# Altium integrated library NSC Audio Power Amplifier.IntLib: 35 symbols
Pins are listed as number, name and electrical type; pins without a type are passive.

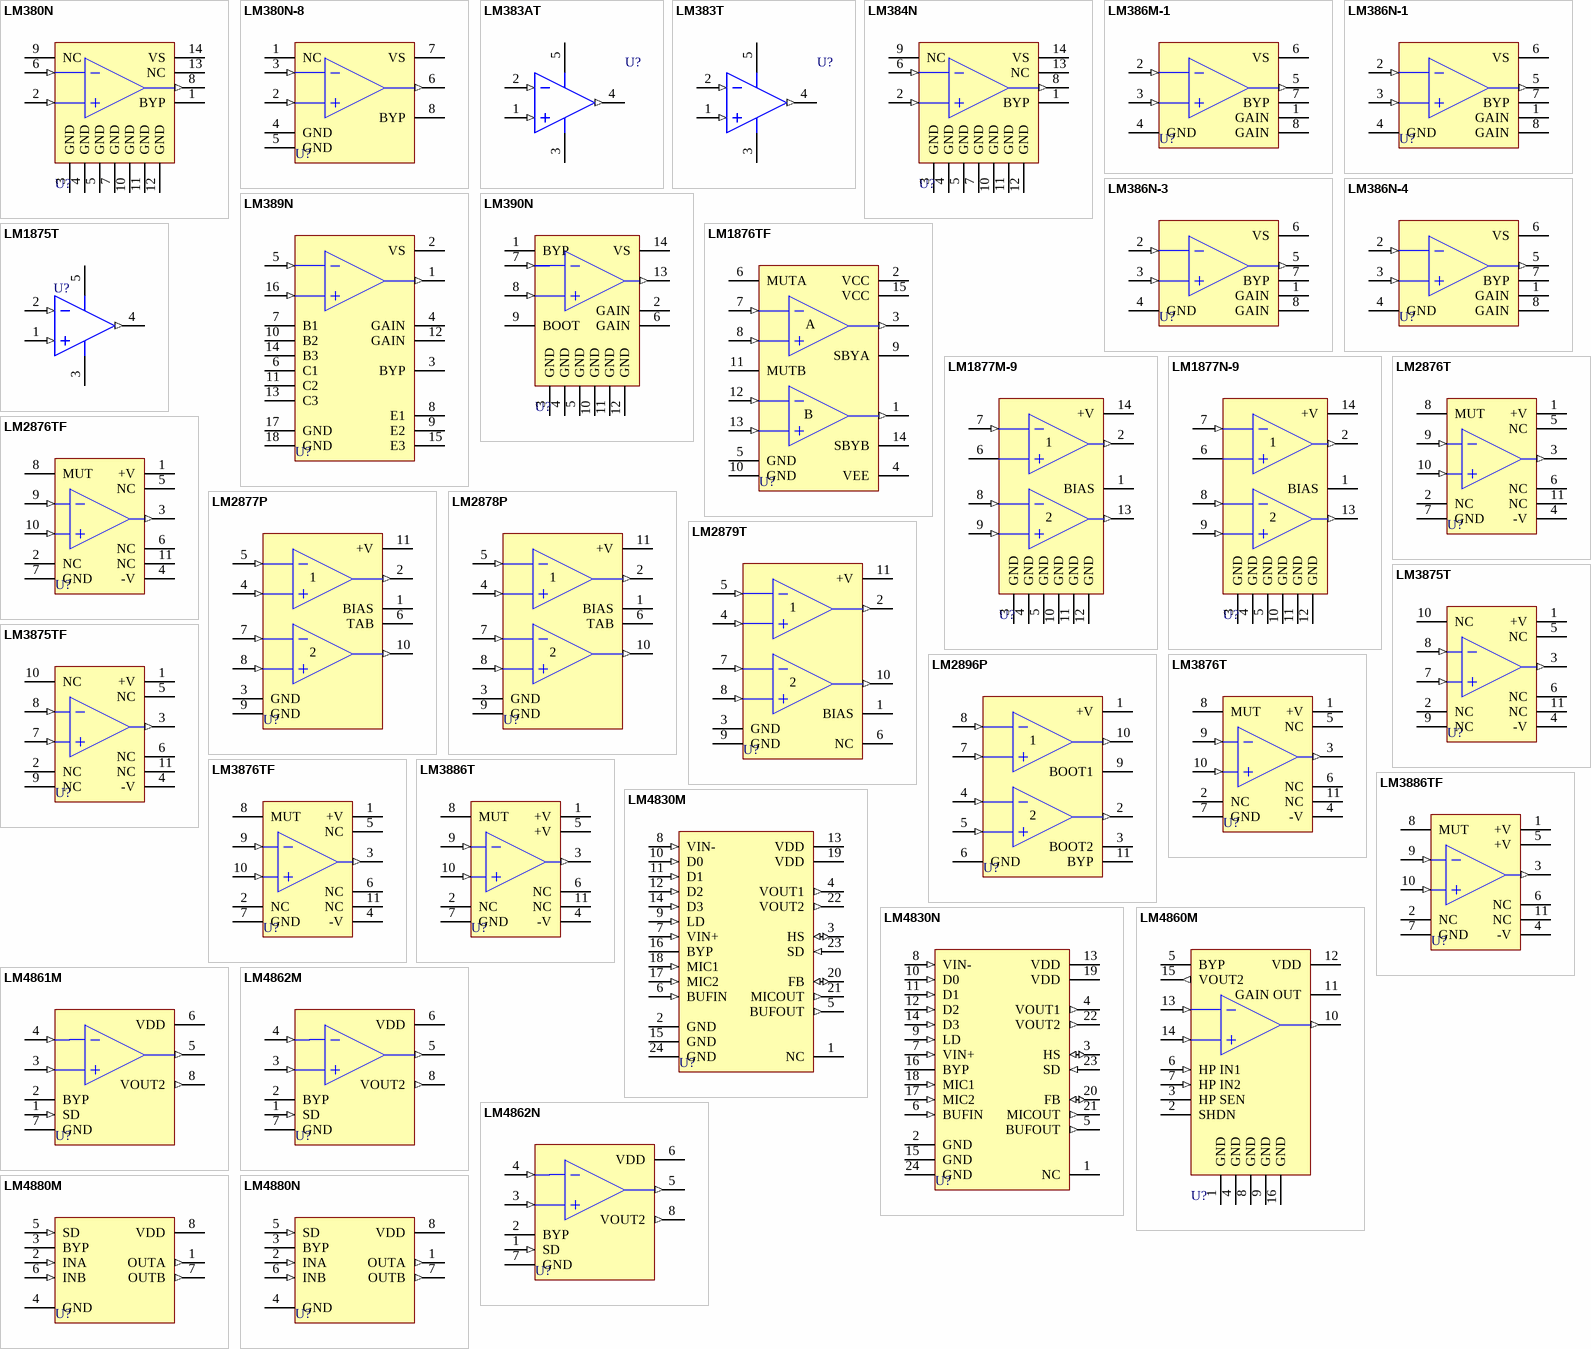
[diagram p0: symbols LM380N to LM4880N]

## LM380N
designator U?
Audio Power Amplifier; Note: Pins 3-5 and 10-12 are Heatsink pins.; Published: 15-Apr-2002; LatestRevisionDate: 06-Jun-2005; LatestRevisionNote: Stylized 3D Model Added.; DatasheetVersion: Dec-1994; PackageVersion: 2000; PackageReference: N14A; Publisher: Altium Limited; PackageDescription: DIP; 14 Leads; Row Spacing 7.62 mm; Pitch 2.54 mm; ComponentLink1Description: Manufacturer Link; ComponentLink1URL: http://www.national.com/; ComponentLink2Description: Datasheet; ComponentLink2URL: http://www.national.com/ds.cgi/LM/LM380.pdf; ComponentLink3Description: URL Link1; ComponentLink3URL: http://www.national.com/pf/LM/LM380.html
footprint N14A (DIP; 14 Leads; Row Spacing 7.62 mm; Pitch 2.54 mm)
3D model N14A (DIP; 14 Leads; Row Spacing 7.62 mm; Pitch 2.54 mm)
pins: 1 BYP, 2 IN+ (in), 3 GND (power), 4 GND (power), 5 GND (power), 6 IN- (in), 7 GND (power), 8 OUT (out), 9 NC, 10 GND (power), 11 GND (power), 12 GND (power), 13 NC, 14 VS (power)

## LM380N-8
designator U?
Audio Power Amplifier; Published: 15-Apr-2002; LatestRevisionDate: 06-Jun-2005; LatestRevisionNote: Stylized 3D Model Added.; DatasheetVersion: Dec-1994; PackageVersion: Sep-1997; PackageReference: N08E; Publisher: Altium Limited; PackageDescription: DIP; 8 Leads; Row Spacing 7.62 mm; Pitch 2.54 mm; ComponentLink1Description: Manufacturer Link; ComponentLink1URL: http://www.national.com/; ComponentLink2Description: Datasheet; ComponentLink2URL: http://www.national.com/ds.cgi/LM/LM380.pdf; ComponentLink3Description: URL Link1; ComponentLink3URL: http://www.national.com/pf/LM/LM380.html
footprint N08E (DIP; 8 Leads; Row Spacing 7.62 mm; Pitch 2.54 mm)
3D model N08E (DIP; 8 Leads; Row Spacing 7.62 mm; Pitch 2.54 mm)
pins: 1 NC, 2 IN+ (in), 3 IN- (in), 4 GND (power), 5 GND (power), 6 OUT (out), 7 VS (power), 8 BYP

## LM383AT
designator U?
7W Audio Power Amplifier; ComponentAvailability: Obsolete; Published: 15-Apr-2002; DatasheetVersion: Feb-1995; PackageVersion: 1995; PackageReference: T05B; Publisher: Altium Limited; PackageDescription: TO, Thru-Hole, Vertical, Heatsink Mounted; 5 Bent Staggered Leads; Pitch 1.7mm; ComponentLink1Description: Manufacturer Link; ComponentLink1URL: http://www.national.com/; ComponentLink2Description: Datasheet; ComponentLink2URL: http://www.national.com/ds.cgi/LM/LM383.pdf; ComponentLink3Description: Discontinuation Notice; ComponentLink3URL: http://www.national.com/obs/obsolescence.txt; ComponentLink4Description: URL Link1; ComponentLink4URL: http://www.national.com/pf/LM/LM383.html
footprint T05B (TO, Thru-Hole, Vertical, Heatsink Mounted; 5 Bent Staggered Leads; Pitch 1.7mm)
pins: 1 IN+ (in), 2 IN- (in), 3 GND (power), 4 OUT (out), 5 VCC (power)

## LM383T
designator U?
7W Audio Power Amplifier; ComponentAvailability: Obsolete; Published: 15-Apr-2002; DatasheetVersion: Feb-1995; PackageVersion: 1995; PackageReference: T05B; Publisher: Altium Limited; PackageDescription: TO, Thru-Hole, Vertical, Heatsink Mounted; 5 Bent Staggered Leads; Pitch 1.7mm; ComponentLink1Description: Manufacturer Link; ComponentLink1URL: http://www.national.com/; ComponentLink2Description: Datasheet; ComponentLink2URL: http://www.national.com/ds.cgi/LM/LM383.pdf; ComponentLink3Description: Discontinuation Notice; ComponentLink3URL: http://www.national.com/obs/obsolescence.txt; ComponentLink4Description: URL Link1; ComponentLink4URL: http://www.national.com/pf/LM/LM383.html
footprint T05B (TO, Thru-Hole, Vertical, Heatsink Mounted; 5 Bent Staggered Leads; Pitch 1.7mm)
pins: 1 IN+ (in), 2 IN- (in), 3 GND (power), 4 OUT (out), 5 VCC (power)

## LM384N
designator U?
5W Audio Power Amplifier; Note: Pins 3-5 and 10-12 are Heatsink pins.; Published: 15-Apr-2002; LatestRevisionDate: 06-Jun-2005; LatestRevisionNote: Stylized 3D Model Added.; DatasheetVersion: Feb-1995; PackageVersion: 2000; PackageReference: N14A; Publisher: Altium Limited; PackageDescription: DIP; 14 Leads; Row Spacing 7.62 mm; Pitch 2.54 mm; ComponentLink1Description: Manufacturer Link; ComponentLink1URL: http://www.national.com/; ComponentLink2Description: Datasheet; ComponentLink2URL: http://www.national.com/ds.cgi/LM/LM384.pdf; ComponentLink3Description: URL Link1; ComponentLink3URL: http://www.national.com/pf/LM/LM384.html
footprint N14A (DIP; 14 Leads; Row Spacing 7.62 mm; Pitch 2.54 mm)
3D model N14A (DIP; 14 Leads; Row Spacing 7.62 mm; Pitch 2.54 mm)
pins: 1 BYP, 2 IN+ (in), 3 GND (power), 4 GND (power), 5 GND (power), 6 IN- (in), 7 GND (power), 8 OUT (out), 9 NC, 10 GND (power), 11 GND (power), 12 GND (power), 13 NC, 14 VS (power)

## LM386M-1
designator U?
Low-Voltage Audio Power Amplifier; Published: 15-Apr-2002; LatestRevisionDate: 13-Apr-2006; LatestRevisionNote: IPC-7351 Footprint Added.; DatasheetVersion: Sep-1997; PackageVersion: Sep-1997; PackageReference: M08A; Publisher: Altium Limited; PackageDescription: 8-Pin Small Outline Integrated Circuit 1.27 mm Pitch; Code_JEDEC: MS-012-AA; Code_IPC: SOIC127P600-8; ComponentLink1Description: Manufacturer Link; ComponentLink1URL: http://www.national.com/; ComponentLink2Description: Datasheet; ComponentLink2URL: http://www.national.com/ds.cgi/LM/LM386.pdf; ComponentLink3Description: URL Link1; ComponentLink3URL: http://www.national.com/pf/LM/LM386.html
footprint M08A_N (SOIC, 8-Leads, Body 4.9x3.9mm, Pitch 1.27mm, IPC Medium Density)
footprint M08A_L (SOIC, 8-Leads, Body 4.9x3.9mm, Pitch 1.27mm, IPC High Density)
footprint M08A_M (SOIC, 8-Leads, Body 4.9x3.9mm, Pitch 1.27mm, IPC Low Density)
3D model M08A (8-Pin Small Outline Integrated Circuit 1.27 mm Pitch)
pins: 1 GAIN, 2 IN- (in), 3 IN+ (in), 4 GND (power), 5 OUT (out), 6 VS (power), 7 BYP, 8 GAIN

## LM386N-1
designator U?
Low-Voltage Audio Power Amplifier; Published: 15-Apr-2002; LatestRevisionDate: 06-Jun-2005; LatestRevisionNote: Stylized 3D Model Added.; DatasheetVersion: Sep-1997; PackageVersion: Sep-1997; PackageReference: N08E; Publisher: Altium Limited; PackageDescription: DIP; 8 Leads; Row Spacing 7.62 mm; Pitch 2.54 mm; ComponentLink1Description: Manufacturer Link; ComponentLink1URL: http://www.national.com/; ComponentLink2Description: Datasheet; ComponentLink2URL: http://www.national.com/ds.cgi/LM/LM386.pdf; ComponentLink3Description: URL Link1; ComponentLink3URL: http://www.national.com/pf/LM/LM386.html
footprint N08E (DIP; 8 Leads; Row Spacing 7.62 mm; Pitch 2.54 mm)
3D model N08E (DIP; 8 Leads; Row Spacing 7.62 mm; Pitch 2.54 mm)
pins: 1 GAIN, 2 IN- (in), 3 IN+ (in), 4 GND (power), 5 OUT (out), 6 VS (power), 7 BYP, 8 GAIN

## LM386N-3
designator U?
Low-Voltage Audio Power Amplifier; Published: 15-Apr-2002; LatestRevisionDate: 06-Jun-2005; LatestRevisionNote: Stylized 3D Model Added.; DatasheetVersion: Sep-1997; PackageVersion: Sep-1997; PackageReference: N08E; Publisher: Altium Limited; PackageDescription: DIP; 8 Leads; Row Spacing 7.62 mm; Pitch 2.54 mm; ComponentLink1Description: Manufacturer Link; ComponentLink1URL: http://www.national.com/; ComponentLink2Description: Datasheet; ComponentLink2URL: http://www.national.com/ds.cgi/LM/LM386.pdf; ComponentLink3Description: URL Link1; ComponentLink3URL: http://www.national.com/pf/LM/LM386.html
footprint N08E (DIP; 8 Leads; Row Spacing 7.62 mm; Pitch 2.54 mm)
3D model N08E (DIP; 8 Leads; Row Spacing 7.62 mm; Pitch 2.54 mm)
pins: 1 GAIN, 2 IN- (in), 3 IN+ (in), 4 GND (power), 5 OUT (out), 6 VS (power), 7 BYP, 8 GAIN

## LM386N-4
designator U?
Low-Voltage Audio Power Amplifier; Published: 15-Apr-2002; LatestRevisionDate: 06-Jun-2005; LatestRevisionNote: Stylized 3D Model Added.; DatasheetVersion: Sep-1997; PackageVersion: Sep-1997; PackageReference: N08E; Publisher: Altium Limited; PackageDescription: DIP; 8 Leads; Row Spacing 7.62 mm; Pitch 2.54 mm; ComponentLink1Description: Manufacturer Link; ComponentLink1URL: http://www.national.com/; ComponentLink2Description: Datasheet; ComponentLink2URL: http://www.national.com/ds.cgi/LM/LM386.pdf; ComponentLink3Description: URL Link1; ComponentLink3URL: http://www.national.com/pf/LM/LM386.html
footprint N08E (DIP; 8 Leads; Row Spacing 7.62 mm; Pitch 2.54 mm)
3D model N08E (DIP; 8 Leads; Row Spacing 7.62 mm; Pitch 2.54 mm)
pins: 1 GAIN, 2 IN- (in), 3 IN+ (in), 4 GND (power), 5 OUT (out), 6 VS (power), 7 BYP, 8 GAIN

## LM389N
designator U?
Low-Voltage Audio Power Amplifier with NPN Transistor Array; Note: Pin 17 is SUB and GND.; ComponentAvailability: Obsolete; Published: 15-Apr-2002; LatestRevisionDate: 06-Jun-2005; LatestRevisionNote: Stylized 3D Model Added.; DatasheetVersion: Dec-1994; PackageVersion: 1995; PackageReference: N18A; Publisher: Altium Limited; PackageDescription: DIP; 18 Leads; Row Spacing 7.62 mm; Pitch 2.54 mm; Code_JEDEC: MS-001-BC; ComponentLink1Description: Manufacturer Link; ComponentLink1URL: http://www.national.com/; ComponentLink2Description: Datasheet; ComponentLink2URL: http://www.national.com/ds.cgi/LM/LM389.pdf; ComponentLink3Description: Discontinuation Notice; ComponentLink3URL: http://www.national.com/obs/obsolescence.txt; ComponentLink4Description: URL Link1; ComponentLink4URL: http://www.national.com/pf/LM/LM389.html
footprint N18A (DIP; 18 Leads; Row Spacing 7.62 mm; Pitch 2.54 mm)
3D model N18A (DIP; 18 Leads; Row Spacing 7.62 mm; Pitch 2.54 mm)
pins: 1 OUT (out), 2 VS (power), 3 BYP, 4 GAIN, 5 IN- (in), 6 C1, 7 B1, 8 E1, 9 E2, 10 B2, 11 C2, 12 GAIN, 13 C3, 14 B3, 15 E3, 16 IN+ (in), 17 GND (power), 18 GND (power)

## LM390N
designator U?
1W Battery Operated Audio Power Amplifier; ComponentAvailability: Obsolete; Published: 15-Apr-2002; LatestRevisionDate: 06-Jun-2005; LatestRevisionNote: Stylized 3D Model Added.; DatasheetVersion: Apr-1995; PackageVersion: 2000; PackageReference: N14A; Publisher: Altium Limited; PackageDescription: DIP; 14 Leads; Row Spacing 7.62 mm; Pitch 2.54 mm; ComponentLink1Description: Manufacturer Link; ComponentLink1URL: http://www.national.com/; ComponentLink2Description: Datasheet; ComponentLink2URL: http://www.national.com/ds.cgi/LM/LM390.pdf; ComponentLink3Description: Discontinuation Notice; ComponentLink3URL: http://www.national.com/obs/obsolescence.txt; ComponentLink4Description: URL Link1; ComponentLink4URL: http://www.national.com/pf/LM/LM390.html
footprint N14A (DIP; 14 Leads; Row Spacing 7.62 mm; Pitch 2.54 mm)
3D model N14A (DIP; 14 Leads; Row Spacing 7.62 mm; Pitch 2.54 mm)
pins: 1 BYP, 2 GAIN, 3 GND (power), 4 GND (power), 5 GND (power), 6 GAIN, 7 IN- (in), 8 IN+ (in), 9 BOOT, 10 GND (power), 11 GND (power), 12 GND (power), 13 OUT (out), 14 VS (power)

## LM1875T
designator U?
20W Audio Power Amplifier; Published: 15-Apr-2002; DatasheetVersion: Feb-1999; PackageVersion: 2000; PackageReference: T05D; Publisher: Altium Limited; PackageDescription: TO, Thru-Hole, Vertical, Heatsink Mounted; 5 Bent Staggered Leads; Pitch 1.7 mm; ComponentLink1Description: Manufacturer Link; ComponentLink1URL: http://www.national.com/; ComponentLink2Description: Datasheet; ComponentLink2URL: http://www.national.com/ds.cgi/LM/LM1875.pdf; ComponentLink3Description: URL Link1; ComponentLink3URL: http://www.national.com/pf/LM/LM1875.html
footprint T05D (TO, Thru-Hole, Vertical, Heatsink Mounted; 5 Bent Staggered Leads; Pitch 1.7 mm)
pins: 1 IN+ (in), 2 IN- (in), 3 VEE (power), 4 OUT (out), 5 VCC (power)

## LM1876TF
designator U?
Dual 20W Audio Power Amplifier with Mute and Standby Modes; Published: 15-Apr-2002; DatasheetVersion: Feb-1998; PackageVersion: 2000; PackageReference: TF15B; Publisher: Altium Limited; PackageDescription: TO, Thru-Hole, Vertical, Heatsink Mounted; 15 Bent Staggered Leads; Pitch 1.27 mm; ComponentLink1Description: Manufacturer Link; ComponentLink1URL: http://www.national.com/; ComponentLink2Description: Datasheet; ComponentLink2URL: http://www.national.com/ds.cgi/LM/LM1876.pdf; ComponentLink3Description: URL Link1; ComponentLink3URL: http://www.national.com/pf/LM/LM1876.html
footprint TF15B (TO, Thru-Hole, Vertical, Heatsink Mounted; 15 Bent Staggered Leads; Pitch 1.27 mm)
pins: 1 OUT (out), 2 VCC (power), 3 OUT (out), 4 VEE (power), 5 GND (power), 6 MUTA, 7 IN- (in), 8 IN+ (in), 9 SBYA, 10 GND (power), 11 MUTB, 12 IN- (in), 13 IN+ (in), 14 SBYB, 15 VCC (power)
text: A; B

## LM1877M-9
designator U?
Dual Audio Power Amplifier; Published: 15-Apr-2002; LatestRevisionDate: 13-Apr-2006; LatestRevisionNote: IPC-7351 Footprint Added.; DatasheetVersion: Feb-1995; PackageVersion: 2000; PackageReference: M14B; Publisher: Altium Limited; PackageDescription: 14-Pin Small Outline Integrated Circuit 1.27 mm Pitch; Code_JEDEC: MS-013-AF; Code_IPC: SOIC127P1030-14; ComponentLink1Description: Manufacturer Link; ComponentLink1URL: http://www.national.com/; ComponentLink2Description: Datasheet; ComponentLink2URL: http://www.national.com/ds.cgi/LM/LM1877.pdf; ComponentLink3Description: URL Link1; ComponentLink3URL: http://www.national.com/pf/LM/LM1877.html
footprint M14B_N (SOIC, 14-Leads, Body 9x7.5mm, Pitch 1.27mm, IPC Medium Density)
footprint M14B_L (SOIC, 14-Leads, Body 9x7.5mm, Pitch 1.27mm, IPC High Density)
footprint M14B_M (SOIC, 14-Leads, Body 9x7.5mm, Pitch 1.27mm, IPC Low Density)
3D model M14B (14-Pin Small Outline Integrated Circuit 1.27 mm Pitch)
pins: 1 BIAS, 2 OUT1 (out), 3 GND (power), 4 GND (power), 5 GND (power), 6 IN1 (power), 7 FB1 (in), 8 FB2 (in), 9 IN2 (in), 10 GND (power), 11 GND (power), 12 GND (power), 13 OUT2 (out), 14 +V (power)

## LM1877N-9
designator U?
Dual Audio Power Amplifier; Published: 15-Apr-2002; LatestRevisionDate: 06-Jun-2005; LatestRevisionNote: Stylized 3D Model Added.; DatasheetVersion: Feb-1995; PackageVersion: 2000; PackageReference: N14A; Publisher: Altium Limited; PackageDescription: DIP; 14 Leads; Row Spacing 7.62 mm; Pitch 2.54 mm; ComponentLink1Description: Manufacturer Link; ComponentLink1URL: http://www.national.com/; ComponentLink2Description: Datasheet; ComponentLink2URL: http://www.national.com/ds.cgi/LM/LM1877.pdf; ComponentLink3Description: URL Link1; ComponentLink3URL: http://www.national.com/pf/LM/LM1877.html
footprint N14A (DIP; 14 Leads; Row Spacing 7.62 mm; Pitch 2.54 mm)
3D model N14A (DIP; 14 Leads; Row Spacing 7.62 mm; Pitch 2.54 mm)
pins: 1 BIAS, 2 OUT1 (out), 3 GND (power), 4 GND (power), 5 GND (power), 6 IN1 (power), 7 FB1 (in), 8 FB2 (in), 9 IN2 (in), 10 GND (power), 11 GND (power), 12 GND (power), 13 OUT2 (out), 14 +V (power)

## LM2876T
designator U?
High-Performance 40W Audio Power Amplifier with Mute; Note: Connect Pin 5 to V+ for compatibility with LM3886.; Published: 15-Apr-2002; DatasheetVersion: Aug-1995; PackageVersion: 2000; PackageReference: TA11B; Publisher: Altium Limited; PackageDescription: TO, Thru-Hole, Vertical, Heatsink Mounted; 11 Bent Staggered Leads; Pitch 1.7 mm; ComponentLink1Description: Manufacturer Link; ComponentLink1URL: http://www.national.com/; ComponentLink2Description: Datasheet; ComponentLink2URL: http://www.national.com/ds.cgi/LM/LM2876.pdf; ComponentLink3Description: URL Link1; ComponentLink3URL: http://www.national.com/pf/LM/LM2876.html
footprint TA11B (TO, Thru-Hole, Vertical, Heatsink Mounted; 11 Bent Staggered Leads; Pitch 1.7 mm)
pins: 1 +V (power), 2 NC, 3 OUT (out), 4 -V (power), 5 NC, 6 NC, 7 GND (power), 8 MUT, 9 IN- (in), 10 IN+ (in), 11 NC

## LM2876TF
designator U?
High-Performance 40W Audio Power Amplifier with Mute; Note: Connect Pin 5 to V+ for compatibility with LM3886.; Published: 15-Apr-2002; DatasheetVersion: Aug-1995; PackageVersion: 2000; PackageReference: TF11B; Publisher: Altium Limited; PackageDescription: TO, Thru-Hole, Vertical, Heatsink Mounted; 11 Bent Staggered Leads; Pitch 1.7 mm; ComponentLink1Description: Manufacturer Link; ComponentLink1URL: http://www.national.com/; ComponentLink2Description: Datasheet; ComponentLink2URL: http://www.national.com/ds.cgi/LM/LM2876.pdf; ComponentLink3Description: URL Link1; ComponentLink3URL: http://www.national.com/pf/LM/LM2876.html
footprint TF11B (TO, Thru-Hole, Vertical, Heatsink Mounted; 11 Bent Staggered Leads; Pitch 1.7 mm)
pins: 1 +V (power), 2 NC, 3 OUT (out), 4 -V (power), 5 NC, 6 NC, 7 GND (power), 8 MUT, 9 IN- (in), 10 IN+ (in), 11 NC

## LM2877P
designator U?
Dual 4W Audio Power Amplifier; Note: Pin 6 must be connected to GND.; ComponentAvailability: Obsolete; Published: 15-Apr-2002; DatasheetVersion: Feb-1995; PackageReference: P11A; Publisher: Altium Limited; PackageDescription: TO, Thru-Hole, Vertical, Heatsink Mounted; 11 In-Line Leads; Pitch 2.54 mm; ComponentLink1Description: Manufacturer Link; ComponentLink1URL: http://www.national.com/; ComponentLink2Description: Datasheet; ComponentLink2URL: http://www.national.com/ds.cgi/LM/LM2877.pdf; ComponentLink3Description: Discontinuation Notice; ComponentLink3URL: http://www.national.com/obs/obsolescence.txt; ComponentLink4Description: URL Link1; ComponentLink4URL: http://www.national.com/pf/LM/LM2877.html
footprint P11A (TO, Thru-Hole, Vertical, Heatsink Mounted; 11 In-Line Leads; Pitch 2.54 mm)
pins: 1 BIAS, 2 OUT1 (out), 3 GND (power), 4 IN1 (in), 5 FB1 (in), 6 TAB, 7 FB2 (in), 8 IN2 (in), 9 GND (power), 10 OUT2 (out), 11 +V (power)

## LM2878P
designator U?
Dual 5W Power Audio  Amplifier; Note: Pin 6 must be connected to GND.; ComponentAvailability: Obsolete; Published: 15-Apr-2002; DatasheetVersion: Dec-1994; PackageReference: P11A; Publisher: Altium Limited; PackageDescription: TO, Thru-Hole, Vertical, Heatsink Mounted; 11 In-Line Leads; Pitch 2.54 mm; ComponentLink1Description: Manufacturer Link; ComponentLink1URL: http://www.national.com/; ComponentLink2Description: Datasheet; ComponentLink2URL: http://www.national.com/ds.cgi/LM/LM2878.pdf; ComponentLink3Description: Discontinuation Notice; ComponentLink3URL: http://www.national.com/obs/obsolescence.txt; ComponentLink4Description: URL Link1; ComponentLink4URL: http://www.national.com/pf/LM/LM2878.html
footprint P11A (TO, Thru-Hole, Vertical, Heatsink Mounted; 11 In-Line Leads; Pitch 2.54 mm)
pins: 1 BIAS, 2 OUT1 (out), 3 GND (power), 4 IN1 (in), 5 FB1 (in), 6 TAB, 7 FB2 (in), 8 IN2 (in), 9 GND (power), 10 OUT2 (out), 11 +V (power)

## LM2879T
designator U?
Dual 8W Audio Amplifier; ComponentAvailability: Obsolete; Published: 15-Apr-2002; DatasheetVersion: Feb-1995; PackageVersion: 2000; PackageReference: TA11B; Publisher: Altium Limited; PackageDescription: TO, Thru-Hole, Vertical, Heatsink Mounted; 11 Bent Staggered Leads; Pitch 1.7 mm; ComponentLink1Description: Manufacturer Link; ComponentLink1URL: http://www.national.com/; ComponentLink2Description: Datasheet; ComponentLink2URL: http://www.national.com/ds.cgi/LM/LM2879.pdf; ComponentLink3Description: Discontinuation Notice; ComponentLink3URL: http://www.national.com/obs/obsolescence.txt; ComponentLink4Description: URL Link1; ComponentLink4URL: http://www.national.com/pf/LM/LM2879.html
footprint TA11B (TO, Thru-Hole, Vertical, Heatsink Mounted; 11 Bent Staggered Leads; Pitch 1.7 mm)
pins: 1 BIAS, 2 OUT1 (out), 3 GND (power), 4 IN1 (in), 5 FB1 (in), 6 NC, 7 FB2 (in), 8 IN2 (in), 9 GND (power), 10 OUT2 (out), 11 +V (power)

## LM2896P
designator U?
Dual Audio Power Amplifier; Published: 15-Apr-2002; DatasheetVersion: Feb-1995; PackageReference: P11A; Publisher: Altium Limited; PackageDescription: TO, Thru-Hole, Vertical, Heatsink Mounted; 11 In-Line Leads; Pitch 2.54 mm; ComponentLink1Description: Manufacturer Link; ComponentLink1URL: http://www.national.com/; ComponentLink2Description: Datasheet; ComponentLink2URL: http://www.national.com/ds.cgi/LM/LM1896.pdf; ComponentLink3Description: URL Link1; ComponentLink3URL: http://www.national.com/pf/LM/LM2896.html
footprint P11A (TO, Thru-Hole, Vertical, Heatsink Mounted; 11 In-Line Leads; Pitch 2.54 mm)
pins: 1 +V (power), 2 OUT (out), 3 BOOT2, 4 IN- (in), 5 IN+ (in), 6 GND (power), 7 IN+ (in), 8 IN- (in), 9 BOOT1, 10 OUT (out), 11 BYP

## LM3875T
designator U?
High-Performence 56W Audio Power Amplifier; Published: 15-Apr-2002; DatasheetVersion: Jun-1999; PackageVersion: 2000; PackageReference: TA11B; Publisher: Altium Limited; PackageDescription: TO, Thru-Hole, Vertical, Heatsink Mounted; 11 Bent Staggered Leads; Pitch 1.7 mm; ComponentLink1Description: Manufacturer Link; ComponentLink1URL: http://www.national.com/; ComponentLink2Description: Datasheet; ComponentLink2URL: http://www.national.com/ds.cgi/LM/LM3875.pdf; ComponentLink3Description: URL Link1; ComponentLink3URL: http://www.national.com/pf/LM/LM3875.html
footprint TA11B (TO, Thru-Hole, Vertical, Heatsink Mounted; 11 Bent Staggered Leads; Pitch 1.7 mm)
pins: 1 +V (power), 2 NC, 3 OUT (out), 4 -V (power), 5 NC, 6 NC, 7 IN+ (in), 8 IN- (in), 9 NC, 10 NC, 11 NC

## LM3875TF
designator U?
High-Performence 56W Audio Power Amplifier; Published: 15-Apr-2002; DatasheetVersion: Jun-1999; PackageVersion: 2000; PackageReference: TF11B; Publisher: Altium Limited; PackageDescription: TO, Thru-Hole, Vertical, Heatsink Mounted; 11 Bent Staggered Leads; Pitch 1.7 mm; ComponentLink1Description: Manufacturer Link; ComponentLink1URL: http://www.national.com/; ComponentLink2Description: Datasheet; ComponentLink2URL: http://www.national.com/ds.cgi/LM/LM3875.pdf; ComponentLink3Description: URL Link1; ComponentLink3URL: http://www.national.com/pf/LM/LM3875.html
footprint TF11B (TO, Thru-Hole, Vertical, Heatsink Mounted; 11 Bent Staggered Leads; Pitch 1.7 mm)
pins: 1 +V (power), 2 NC, 3 OUT (out), 4 -V (power), 5 NC, 6 NC, 7 IN+ (in), 8 IN- (in), 9 NC, 10 NC, 11 NC

## LM3876T
designator U?
High-Performance 56W Audio Power Amplifier with Mute; Note: Connect Pin 5 to V+ for compatibility with LM3886.; Published: 15-Apr-2002; DatasheetVersion: Apr-1995; PackageVersion: 2000; PackageReference: TA11B; Publisher: Altium Limited; PackageDescription: TO, Thru-Hole, Vertical, Heatsink Mounted; 11 Bent Staggered Leads; Pitch 1.7 mm; ComponentLink1Description: Manufacturer Link; ComponentLink1URL: http://www.national.com/; ComponentLink2Description: Datasheet; ComponentLink2URL: http://www.national.com/ds.cgi/LM/LM3876.pdf; ComponentLink3Description: URL Link1; ComponentLink3URL: http://www.national.com/pf/LM/LM3876.html
footprint TA11B (TO, Thru-Hole, Vertical, Heatsink Mounted; 11 Bent Staggered Leads; Pitch 1.7 mm)
pins: 1 +V (power), 2 NC, 3 OUT (out), 4 -V (power), 5 NC, 6 NC, 7 GND (power), 8 MUT, 9 IN- (in), 10 IN+ (in), 11 NC

## LM3876TF
designator U?
High-Performance 56W Audio Power Amplifier with Mute; Note: Connect Pin 5 to V+ for compatibility with LM3886.; Published: 15-Apr-2002; DatasheetVersion: Apr-1995; PackageVersion: 2000; PackageReference: TF11B; Publisher: Altium Limited; PackageDescription: TO, Thru-Hole, Vertical, Heatsink Mounted; 11 Bent Staggered Leads; Pitch 1.7 mm; ComponentLink1Description: Manufacturer Link; ComponentLink1URL: http://www.national.com/; ComponentLink2Description: Datasheet; ComponentLink2URL: http://www.national.com/ds.cgi/LM/LM3876.pdf; ComponentLink3Description: URL Link1; ComponentLink3URL: http://www.national.com/pf/LM/LM3876.html
footprint TF11B (TO, Thru-Hole, Vertical, Heatsink Mounted; 11 Bent Staggered Leads; Pitch 1.7 mm)
pins: 1 +V (power), 2 NC, 3 OUT (out), 4 -V (power), 5 NC, 6 NC, 7 GND (power), 8 MUT, 9 IN- (in), 10 IN+ (in), 11 NC

## LM3886T
designator U?
High-Performance 68W Audio Power Amplifier with Mute; Published: 15-Apr-2002; DatasheetVersion: May-1999; PackageVersion: 2000; PackageReference: TA11B; Publisher: Altium Limited; PackageDescription: TO, Thru-Hole, Vertical, Heatsink Mounted; 11 Bent Staggered Leads; Pitch 1.7 mm; ComponentLink1Description: Manufacturer Link; ComponentLink1URL: http://www.national.com/; ComponentLink2Description: Datasheet; ComponentLink2URL: http://www.national.com/ds.cgi/LM/LM3886.pdf; ComponentLink3Description: URL Link1; ComponentLink3URL: http://www.national.com/pf/LM/LM3886.html
footprint TA11B (TO, Thru-Hole, Vertical, Heatsink Mounted; 11 Bent Staggered Leads; Pitch 1.7 mm)
pins: 1 +V (power), 2 NC, 3 OUT (out), 4 -V (power), 5 +V (power), 6 NC, 7 GND (power), 8 MUT, 9 IN- (in), 10 IN+ (in), 11 NC

## LM3886TF
designator U?
High-Performance 68W Audio Power Amplifier with Mute; Published: 15-Apr-2002; DatasheetVersion: May-1999; PackageVersion: 2000; PackageReference: TF11B; Publisher: Altium Limited; PackageDescription: TO, Thru-Hole, Vertical, Heatsink Mounted; 11 Bent Staggered Leads; Pitch 1.7 mm; ComponentLink1Description: Manufacturer Link; ComponentLink1URL: http://www.national.com/; ComponentLink2Description: Datasheet; ComponentLink2URL: http://www.national.com/ds.cgi/LM/LM3886.pdf; ComponentLink3Description: URL Link1; ComponentLink3URL: http://www.national.com/pf/LM/LM3886.html
footprint TF11B (TO, Thru-Hole, Vertical, Heatsink Mounted; 11 Bent Staggered Leads; Pitch 1.7 mm)
pins: 1 +V (power), 2 NC, 3 OUT (out), 4 -V (power), 5 +V (power), 6 NC, 7 GND (power), 8 MUT, 9 IN- (in), 10 IN+ (in), 11 NC

## LM4830M
designator U?
Two-Way Audio Amplification System with Volume Control; ComponentAvailability: Obsolete; Published: 15-Apr-2002; LatestRevisionDate: 13-Apr-2006; LatestRevisionNote: IPC-7351 Footprint Added.; DatasheetVersion: Jan-1999; PackageVersion: 2000; PackageReference: M24B; Publisher: Altium Limited; PackageDescription: 24-Pin Small Outline Integrated Circuit 1.27 mm Pitch; ComponentLink1Description: Manufacturer Link; ComponentLink1URL: http://www.national.com/; ComponentLink2Description: Discontinuation Notice; ComponentLink2URL: http://www.national.com/obs/obsolescence.txt
footprint M24B_N (SOIC, 24-Leads, Body 15.4x7.5mm, Pitch 1.27mm, IPC Medium Density)
footprint M24B_L (SOIC, 24-Leads, Body 15.4x7.5mm, Pitch 1.27mm, IPC High Density)
footprint M24B_M (SOIC, 24-Leads, Body 15.4x7.5mm, Pitch 1.27mm, IPC Low Density)
3D model M24B (24-Pin Small Outline Integrated Circuit 1.27 mm Pitch)
pins: 1 NC, 2 GND (power), 3 HS (io), 4 VOUT1 (out), 5 BUFOUT (out), 6 BUFIN (in), 7 VIN+ (in), 8 VIN- (in), 9 LD (in), 10 D0 (in), 11 D1 (in), 12 D2 (in), 13 VDD (power), 14 D3 (in), 15 GND (power), 16 BYP, 17 MIC2 (in), 18 MIC1 (in), 19 VDD (power), 20 FB (io), 21 MICOUT (out), 22 VOUT2 (out), 23 SD (in), 24 GND (power)

## LM4830N
designator U?
Two-Way Audio Amplification System with Volume Control; ComponentAvailability: Obsolete; Published: 15-Apr-2002; LatestRevisionDate: 06-Jun-2005; LatestRevisionNote: Stylized 3D Model Added.; DatasheetVersion: Jan-1999; PackageVersion: 2000; PackageReference: N24A; Publisher: Altium Limited; PackageDescription: DIP; 24 Leads; Row Spacing 15.24 mm; Pitch 2.54 mm; ComponentLink1Description: Manufacturer Link; ComponentLink1URL: http://www.national.com/; ComponentLink2Description: Discontinuation Notice; ComponentLink2URL: http://www.national.com/obs/obsolescence.txt
footprint N24A (DIP; 24 Leads; Row Spacing 15.24 mm; Pitch 2.54 mm)
3D model N24A (DIP; 24 Leads; Row Spacing 15.24 mm; Pitch 2.54 mm)
pins: 1 NC, 2 GND (power), 3 HS (io), 4 VOUT1 (out), 5 BUFOUT (out), 6 BUFIN (in), 7 VIN+ (in), 8 VIN- (in), 9 LD (in), 10 D0 (in), 11 D1 (in), 12 D2 (in), 13 VDD (power), 14 D3 (in), 15 GND (power), 16 BYP, 17 MIC2 (in), 18 MIC1 (in), 19 VDD (power), 20 FB (io), 21 MICOUT (out), 22 VOUT2 (out), 23 SD (in), 24 GND (power)

## LM4860M
designator U?
1W Audio Power Amplifier with Shutdown Mode; Published: 15-Apr-2002; LatestRevisionDate: 13-Apr-2006; LatestRevisionNote: IPC-7351 Footprint Added.; DatasheetVersion: Aug-1994; PackageVersion: 2000; PackageReference: M16A; Publisher: Altium Limited; PackageDescription: 16-Pin Small Outline Integrated Circuit 1.27 mm Pitch; Code_IPC: SOIC127P600-16; ComponentLink1Description: Manufacturer Link; ComponentLink1URL: http://www.national.com/; ComponentLink2Description: Datasheet; ComponentLink2URL: http://www.national.com/ds.cgi/LM/LM4860.pdf; ComponentLink3Description: URL Link1; ComponentLink3URL: http://www.national.com/pf/LM/LM4860.html
footprint M16A_N (SOIC, 16-Leads, Body 9.9x3.9mm, Pitch 1.27mm, IPC Medium Density)
footprint M16A_L (SOIC, 16-Leads, Body 9.9x3.9mm, Pitch 1.27mm, IPC High Density)
footprint M16A_M (SOIC, 16-Leads, Body 9.9x3.9mm, Pitch 1.27mm, IPC Low Density)
3D model M16A (16-Pin Small Outline Integrated Circuit 1.27 mm Pitch)
pins: 1 GND (power), 2 SHDN, 3 HP SEN, 4 GND (power), 5 BYP, 6 HP IN1 (in), 7 HP IN2 (in), 8 GND (power), 9 GND (power), 10 VOUT1 (out), 11 GAIN OUT, 12 VDD (power), 13 IN- (in), 14 IN+ (in), 15 VOUT2 (out), 16 GND (power)

## LM4861M
designator U?
1.1 Audio Power Amplifier with Shutdown Mode; Published: 15-Apr-2002; LatestRevisionDate: 13-Apr-2006; LatestRevisionNote: IPC-7351 Footprint Added.; DatasheetVersion: May-1997; PackageVersion: Sep-1997; PackageReference: M08A; Publisher: Altium Limited; PackageDescription: 8-Pin Small Outline Integrated Circuit 1.27 mm Pitch; Code_JEDEC: MS-012-AA; Code_IPC: SOIC127P600-8; ComponentLink1Description: Manufacturer Link; ComponentLink1URL: http://www.national.com/; ComponentLink2Description: Datasheet; ComponentLink2URL: http://www.national.com/ds.cgi/LM/LM4861.pdf; ComponentLink3Description: URL Link1; ComponentLink3URL: http://www.national.com/pf/LM/LM4861.html
footprint M08A_N (SOIC, 8-Leads, Body 4.9x3.9mm, Pitch 1.27mm, IPC Medium Density)
footprint M08A_L (SOIC, 8-Leads, Body 4.9x3.9mm, Pitch 1.27mm, IPC High Density)
footprint M08A_M (SOIC, 8-Leads, Body 4.9x3.9mm, Pitch 1.27mm, IPC Low Density)
3D model M08A (8-Pin Small Outline Integrated Circuit 1.27 mm Pitch)
pins: 1 SD (in), 2 BYP, 3 IN+ (in), 4 IN- (in), 5 VOUT1 (out), 6 VDD (power), 7 GND (power), 8 VOUT2 (out)

## LM4862M
designator U?
675mW Audio Power Amplifier with Shutdown Mode; Published: 15-Apr-2002; LatestRevisionDate: 13-Apr-2006; LatestRevisionNote: IPC-7351 Footprint Added.; DatasheetVersion: May-1997; PackageVersion: Sep-1997; PackageReference: M08A; Publisher: Altium Limited; PackageDescription: 8-Pin Small Outline Integrated Circuit 1.27 mm Pitch; Code_JEDEC: MS-012-AA; Code_IPC: SOIC127P600-8; ComponentLink1Description: Manufacturer Link; ComponentLink1URL: http://www.national.com/; ComponentLink2Description: Datasheet; ComponentLink2URL: http://www.national.com/ds.cgi/LM/LM4862.pdf; ComponentLink3Description: URL Link1; ComponentLink3URL: http://www.national.com/pf/LM/LM4862.html
footprint M08A_N (SOIC, 8-Leads, Body 4.9x3.9mm, Pitch 1.27mm, IPC Medium Density)
footprint M08A_L (SOIC, 8-Leads, Body 4.9x3.9mm, Pitch 1.27mm, IPC High Density)
footprint M08A_M (SOIC, 8-Leads, Body 4.9x3.9mm, Pitch 1.27mm, IPC Low Density)
3D model M08A (8-Pin Small Outline Integrated Circuit 1.27 mm Pitch)
pins: 1 SD (in), 2 BYP, 3 IN+ (in), 4 IN- (in), 5 VOUT1 (out), 6 VDD (power), 7 GND (power), 8 VOUT2 (out)

## LM4862N
designator U?
675mW Audio Power Amplifier With Shutdown Mode; ComponentAvailability: Obsolete; Published: 15-Apr-2002; LatestRevisionDate: 06-Jun-2005; LatestRevisionNote: Stylized 3D Model Added.; DatasheetVersion: May-1997; PackageVersion: Sep-1997; PackageReference: N08E; Publisher: Altium Limited; PackageDescription: DIP; 8 Leads; Row Spacing 7.62 mm; Pitch 2.54 mm; ComponentLink1Description: Manufacturer Link; ComponentLink1URL: http://www.national.com/; ComponentLink2Description: Datasheet; ComponentLink2URL: http://www.national.com/ds.cgi/LM/LM4862.pdf; ComponentLink3Description: Discontinuation Notice; ComponentLink3URL: http://www.national.com/obs/obsolescence.txt; ComponentLink4Description: URL Link1; ComponentLink4URL: http://www.national.com/pf/LM/LM4862.html
footprint N08E (DIP; 8 Leads; Row Spacing 7.62 mm; Pitch 2.54 mm)
3D model N08E (DIP; 8 Leads; Row Spacing 7.62 mm; Pitch 2.54 mm)
pins: 1 SD (in), 2 BYP, 3 IN+ (in), 4 IN- (in), 5 VOUT1 (out), 6 VDD (power), 7 GND (power), 8 VOUT2 (out)

## LM4880M
designator U?
Dual 250mW Audio Amplifier with Shutdown Mode; Published: 15-Apr-2002; LatestRevisionDate: 13-Apr-2006; LatestRevisionNote: IPC-7351 Footprint Added.; DatasheetVersion: Nov-1995; PackageVersion: Sep-1997; PackageReference: M08A; Publisher: Altium Limited; PackageDescription: 8-Pin Small Outline Integrated Circuit 1.27 mm Pitch; Code_JEDEC: MS-012-AA; Code_IPC: SOIC127P600-8; ComponentLink1Description: Manufacturer Link; ComponentLink1URL: http://www.national.com/; ComponentLink2Description: Datasheet; ComponentLink2URL: http://www.national.com/ds.cgi/LM/LM4880.pdf; ComponentLink3Description: URL Link1; ComponentLink3URL: http://www.national.com/pf/LM/LM4880.html
footprint M08A_N (SOIC, 8-Leads, Body 4.9x3.9mm, Pitch 1.27mm, IPC Medium Density)
footprint M08A_L (SOIC, 8-Leads, Body 4.9x3.9mm, Pitch 1.27mm, IPC High Density)
footprint M08A_M (SOIC, 8-Leads, Body 4.9x3.9mm, Pitch 1.27mm, IPC Low Density)
3D model M08A (8-Pin Small Outline Integrated Circuit 1.27 mm Pitch)
pins: 1 OUTA (out), 2 INA (in), 3 BYP, 4 GND (power), 5 SD (in), 6 INB (in), 7 OUTB (out), 8 VDD (power)

## LM4880N
designator U?
Dual 250mW Audio Amplifier with Shutdown Mode; ComponentAvailability: Obsolete; Published: 15-Apr-2002; LatestRevisionDate: 06-Jun-2005; LatestRevisionNote: Stylized 3D Model Added.; DatasheetVersion: Nov-1995; PackageVersion: Sep-1997; PackageReference: N08E; Publisher: Altium Limited; PackageDescription: DIP; 8 Leads; Row Spacing 7.62 mm; Pitch 2.54 mm; ComponentLink1Description: Manufacturer Link; ComponentLink1URL: http://www.national.com/; ComponentLink2Description: Datasheet; ComponentLink2URL: http://www.national.com/ds.cgi/LM/LM4880.pdf; ComponentLink3Description: Discontinuation Notice; ComponentLink3URL: http://www.national.com/obs/obsolescence.txt; ComponentLink4Description: URL Link1; ComponentLink4URL: http://www.national.com/pf/LM/LM4880.html
footprint N08E (DIP; 8 Leads; Row Spacing 7.62 mm; Pitch 2.54 mm)
3D model N08E (DIP; 8 Leads; Row Spacing 7.62 mm; Pitch 2.54 mm)
pins: 1 OUTA (out), 2 INA (in), 3 BYP, 4 GND (power), 5 SD (in), 6 INB (in), 7 OUTB (out), 8 VDD (power)